# EAGLE library part MSP432P401RIZXHR (library Microcontroller)
IC MCU 32BIT 256KB FLASH 80NFBGA Manufacturer's datasheet <http://www.ti.com/lit/ds/symlink/msp432p401r.pdf>
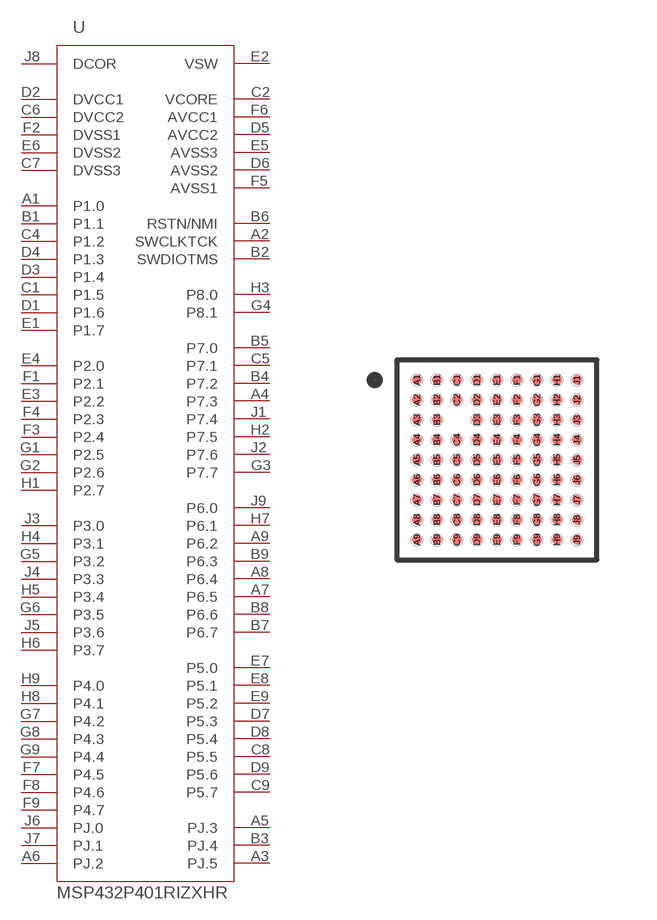
[diagram p27: symbol with the pads of BGA80; footprint BGA80]

Designator prefix U

## MSP432P401RIZXHR (CREATED_BY: PCBLayout.com; DIGIKEY_PARTNO: 296-45566-6-ND; MANUFACTURER: Texas Instruments; MPN: MSP432P401RIZXHR; PACKAGE: 80-NFBGA)  [BGA80]
A1  P1.0
A2  SWCLKTCK
A3  PJ.5
A4  P7.3
A5  PJ.3
A6  PJ.2
A7  P6.5
A8  P6.4
A9  P6.2
B1  P1.1
B2  SWDIOTMS
B3  PJ.4
B4  P7.2
B5  P7.0
B6  RSTN/NMI
B7  P6.7
B8  P6.6
B9  P6.3
C1  P1.5
C2  VCORE  pwr
C4  P1.2
C5  P7.1
C6  DVCC2  pwr
C7  DVSS3  pwr
C8  P5.5
C9  P5.7
D1  P1.6
D2  DVCC1  pwr
D3  P1.4
D4  P1.3
D5  AVCC2  pwr
D6  AVSS2  pwr
D7  P5.3
D8  P5.4
D9  P5.6
E1  P1.7
E2  VSW  pwr
E3  P2.2
E4  P2.0
E5  AVSS3  pwr
E6  DVSS2  pwr
E7  P5.0
E8  P5.1
E9  P5.2
F1  P2.1
F2  DVSS1  pwr
F3  P2.4
F4  P2.3
F5  AVSS1  pwr
F6  AVCC1  pwr
F7  P4.5
F8  P4.6
F9  P4.7
G1  P2.5
G2  P2.6
G3  P7.7
G4  P8.1
G5  P3.2
G6  P3.5
G7  P4.2
G8  P4.3
G9  P4.4
H1  P2.7
H2  P7.5
H3  P8.0
H4  P3.1
H5  P3.4
H6  P3.7
H7  P6.1
H8  P4.1
H9  P4.0
J1  P7.4
J2  P7.6
J3  P3.0
J4  P3.3
J5  P3.6
J6  PJ.0
J7  PJ.1
J8  DCOR  pwr
J9  P6.0

## Footprint BGA80 (pad centres in mm)
Ball Grid Array (BGA), 0.50 mm pitch, square; 81 pin, 5.00 mm L X 5.00 mm W X 1.00 mm H body PCB Libraries Packages
smd 0.25 x 0.25: A1 -2,2; A2 -2,1.5; A3 -2,1; A4 -2,0.5; A5 -2,0; A6 -2,-0.5; A7 -2,-1; A8 -2,-1.5; A9 -2,-2; B1 -1.5,2; B2 -1.5,1.5; B3 -1.5,1; B4 -1.5,0.5; B5 -1.5,0; B6 -1.5,-0.5; B7 -1.5,-1; B8 -1.5,-1.5; B9 -1.5,-2; C1 -1,2; C2 -1,1.5; C4 -1,0.5; C5 -1,0; C6 -1,-0.5; C7 -1,-1; C8 -1,-1.5; C9 -1,-2; D1 -0.5,2; D2 -0.5,1.5; D3 -0.5,1; D4 -0.5,0.5; D5 -0.5,0; D6 -0.5,-0.5; D7 -0.5,-1; D8 -0.5,-1.5; D9 -0.5,-2; E1 0,2; E2 0,1.5; E3 0,1; E4 0,0.5; E5 0,0; E6 0,-0.5; E7 0,-1; E8 0,-1.5; E9 0,-2; F1 0.5,2; F2 0.5,1.5; F3 0.5,1; F4 0.5,0.5; F5 0.5,0; F6 0.5,-0.5; F7 0.5,-1; F8 0.5,-1.5; F9 0.5,-2; G1 1,2; G2 1,1.5; G3 1,1; G4 1,0.5; G5 1,0; G6 1,-0.5; G7 1,-1; G8 1,-1.5; G9 1,-2; H1 1.5,2; H2 1.5,1.5; H3 1.5,1; H4 1.5,0.5; H5 1.5,0; H6 1.5,-0.5; H7 1.5,-1; H8 1.5,-1.5; H9 1.5,-2; J1 2,2; J2 2,1.5; J3 2,1; J4 2,0.5; J5 2,0; J6 2,-0.5; J7 2,-1; J8 2,-1.5; J9 2,-2